# EAGLE library part SSW-148-02-S-T (library con-samtec)
THROUGH-HOLE .025" SQ POST SOCKET Source: Samtec SSW.pdf
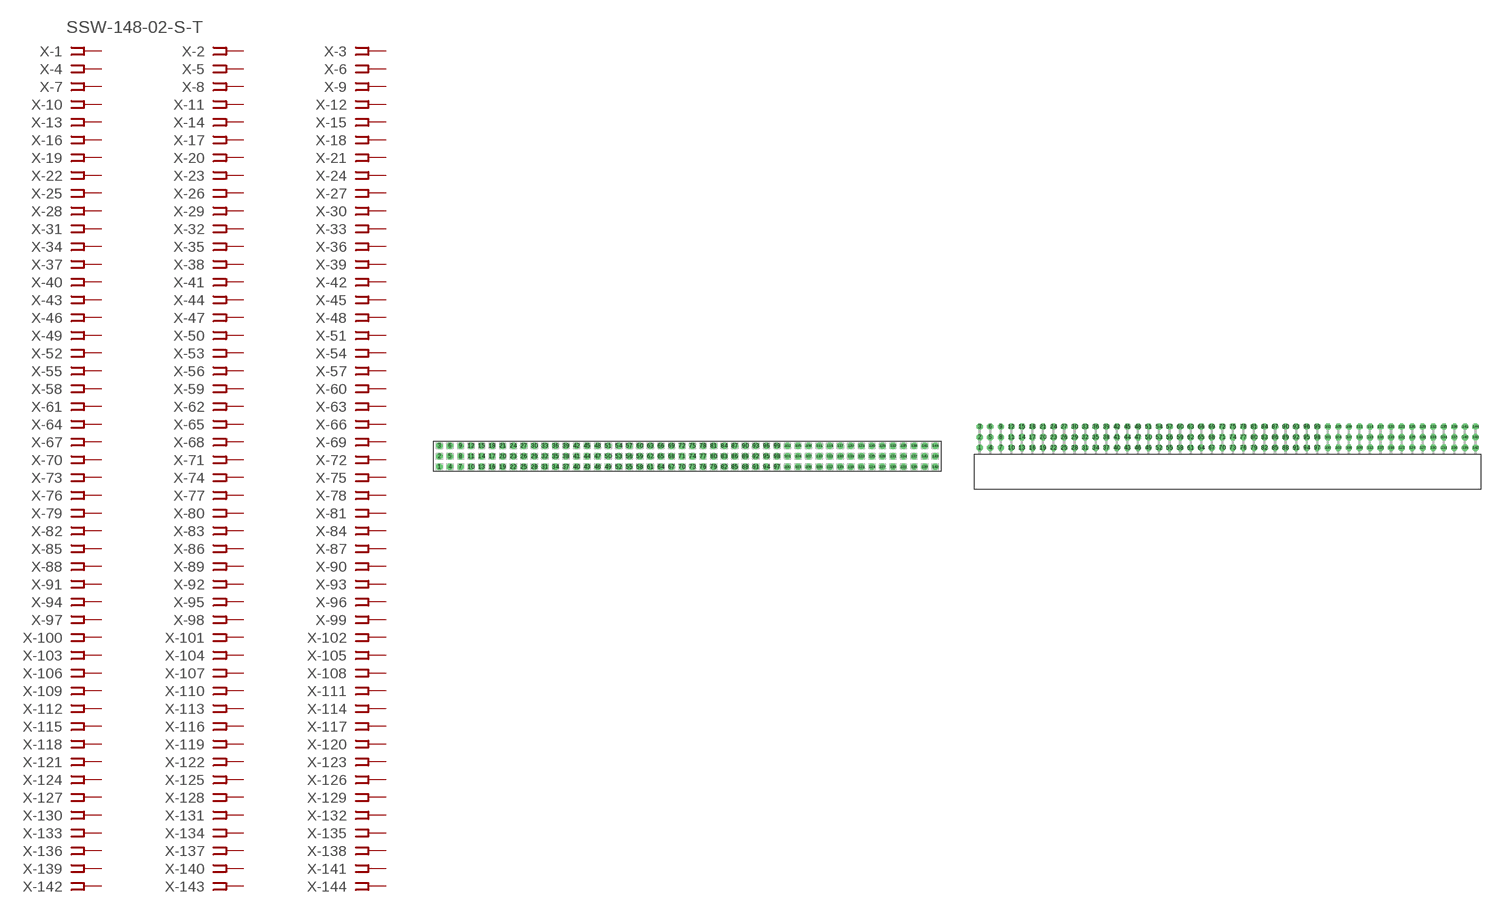
[diagram p8: symbol with the pads of SSW-148-02-S-T; footprints SSW-148-02-S-T, SSW-148-02-S-T-RA]

Designator prefix X; gates -1=FPINV -2=FPIN -3=FPIN -4=FPIN -5=FPIN -6=FPIN -7=FPIN -8=FPIN -9=FPIN -10=FPIN -11=FPIN -12=FPIN -13=FPIN -14=FPIN -15=FPIN -16=FPIN -17=FPIN -18=FPIN -19=FPIN -20=FPIN -21=FPIN -22=FPIN -23=FPIN -24=FPIN -25=FPIN -26=FPIN -27=FPIN -28=FPIN -29=FPIN -30=FPIN -31=FPIN -32=FPIN -33=FPIN -34=FPIN -35=FPIN -36=FPIN -37=FPIN -38=FPIN -39=FPIN -40=FPIN -41=FPIN -42=FPIN -43=FPIN -44=FPIN -45=FPIN -46=FPIN -47=FPIN -48=FPIN -49=FPIN -50=FPIN -51=FPIN -52=FPIN -53=FPIN -54=FPIN -55=FPIN -56=FPIN -57=FPIN -58=FPIN -59=FPIN -60=FPIN -61=FPIN -62=FPIN -63=FPIN -64=FPIN -65=FPIN -66=FPIN -67=FPIN -68=FPIN -69=FPIN -70=FPIN -71=FPIN -72=FPIN -73=FPIN -74=FPIN -75=FPIN -76=FPIN -77=FPIN -78=FPIN -79=FPIN -80=FPIN -81=FPIN -82=FPIN -83=FPIN -84=FPIN -85=FPIN -86=FPIN -87=FPIN -88=FPIN -89=FPIN -90=FPIN -91=FPIN -92=FPIN -93=FPIN -94=FPIN -95=FPIN -96=FPIN -97=FPIN -98=FPIN -99=FPIN -100=FPIN -101=FPIN -102=FPIN -103=FPIN -104=FPIN -105=FPIN -106=FPIN -107=FPIN -108=FPIN -109=FPIN -110=FPIN -111=FPIN -112=FPIN -113=FPIN -114=FPIN -115=FPIN -116=FPIN -117=FPIN -118=FPIN -119=FPIN -120=FPIN -121=FPIN -122=FPIN -123=FPIN -124=FPIN -125=FPIN -126=FPIN -127=FPIN -128=FPIN -129=FPIN -130=FPIN -131=FPIN -132=FPIN -133=FPIN -134=FPIN -135=FPIN -136=FPIN -137=FPIN -138=FPIN -139=FPIN -140=FPIN -141=FPIN -142=FPIN -143=FPIN -144=FPIN

## SSW-148-02-S-T (OC_FARNELL: unknown; OC_NEWARK: unknown)  [SSW-148-02-S-T]
1  -1:1  pas
2  -2:1  pas
3  -3:1  pas
4  -4:1  pas
5  -5:1  pas
6  -6:1  pas
7  -7:1  pas
8  -8:1  pas
9  -9:1  pas
10  -10:1  pas
11  -11:1  pas
12  -12:1  pas
13  -13:1  pas
14  -14:1  pas
15  -15:1  pas
16  -16:1  pas
17  -17:1  pas
18  -18:1  pas
19  -19:1  pas
20  -20:1  pas
21  -21:1  pas
22  -22:1  pas
23  -23:1  pas
24  -24:1  pas
25  -25:1  pas
26  -26:1  pas
27  -27:1  pas
28  -28:1  pas
29  -29:1  pas
30  -30:1  pas
31  -31:1  pas
32  -32:1  pas
33  -33:1  pas
34  -34:1  pas
35  -35:1  pas
36  -36:1  pas
37  -37:1  pas
38  -38:1  pas
39  -39:1  pas
40  -40:1  pas
41  -41:1  pas
42  -42:1  pas
43  -43:1  pas
44  -44:1  pas
45  -45:1  pas
46  -46:1  pas
47  -47:1  pas
48  -48:1  pas
49  -49:1  pas
50  -50:1  pas
51  -51:1  pas
52  -52:1  pas
53  -53:1  pas
54  -54:1  pas
55  -55:1  pas
56  -56:1  pas
57  -57:1  pas
58  -58:1  pas
59  -59:1  pas
60  -60:1  pas
61  -61:1  pas
62  -62:1  pas
63  -63:1  pas
64  -64:1  pas
65  -65:1  pas
66  -66:1  pas
67  -67:1  pas
68  -68:1  pas
69  -69:1  pas
70  -70:1  pas
71  -71:1  pas
72  -72:1  pas
73  -73:1  pas
74  -74:1  pas
75  -75:1  pas
76  -76:1  pas
77  -77:1  pas
78  -78:1  pas
79  -79:1  pas
80  -80:1  pas
81  -81:1  pas
82  -82:1  pas
83  -83:1  pas
84  -84:1  pas
85  -85:1  pas
86  -86:1  pas
87  -87:1  pas
88  -88:1  pas
89  -89:1  pas
90  -90:1  pas
91  -91:1  pas
92  -92:1  pas
93  -93:1  pas
94  -94:1  pas
95  -95:1  pas
96  -96:1  pas
97  -97:1  pas
98  -98:1  pas
99  -99:1  pas
100  -100:1  pas
101  -101:1  pas
102  -102:1  pas
103  -103:1  pas
104  -104:1  pas
105  -105:1  pas
106  -106:1  pas
107  -107:1  pas
108  -108:1  pas
109  -109:1  pas
110  -110:1  pas
111  -111:1  pas
112  -112:1  pas
113  -113:1  pas
114  -114:1  pas
115  -115:1  pas
116  -116:1  pas
117  -117:1  pas
118  -118:1  pas
119  -119:1  pas
120  -120:1  pas
121  -121:1  pas
122  -122:1  pas
123  -123:1  pas
124  -124:1  pas
125  -125:1  pas
126  -126:1  pas
127  -127:1  pas
128  -128:1  pas
129  -129:1  pas
130  -130:1  pas
131  -131:1  pas
132  -132:1  pas
133  -133:1  pas
134  -134:1  pas
135  -135:1  pas
136  -136:1  pas
137  -137:1  pas
138  -138:1  pas
139  -139:1  pas
140  -140:1  pas
141  -141:1  pas
142  -142:1  pas
143  -143:1  pas
144  -144:1  pas

## SSW-148-02-S-TRA (OC_FARNELL: unknown; OC_NEWARK: unknown)  [SSW-148-02-S-T-RA]
Pads as for SSW-148-02-S-T

## Footprint SSW-148-02-S-T (pad centres in mm)
THROUGH-HOLE .025" SQ POST SOCKET Source: Samtec SSW.pdf
drill 1 pad 1.5 octagon: 1 -59.69,-2.54; 2 -59.69,0; 3 -59.69,2.54; 4 -57.15,-2.54; 5 -57.15,0; 6 -57.15,2.54; 7 -54.61,-2.54; 8 -54.61,0; 9 -54.61,2.54; 10 -52.07,-2.54; 11 -52.07,0; 12 -52.07,2.54; 13 -49.53,-2.54; 14 -49.53,0; 15 -49.53,2.54; 16 -46.99,-2.54; 17 -46.99,0; 18 -46.99,2.54; 19 -44.45,-2.54; 20 -44.45,0; 21 -44.45,2.54; 22 -41.91,-2.54; 23 -41.91,0; 24 -41.91,2.54; 25 -39.37,-2.54; 26 -39.37,0; 27 -39.37,2.54; 28 -36.83,-2.54; 29 -36.83,0; 30 -36.83,2.54; 31 -34.29,-2.54; 32 -34.29,0; 33 -34.29,2.54; 34 -31.75,-2.54; 35 -31.75,0; 36 -31.75,2.54; 37 -29.21,-2.54; 38 -29.21,0; 39 -29.21,2.54; 40 -26.67,-2.54; 41 -26.67,0; 42 -26.67,2.54; 43 -24.13,-2.54; 44 -24.13,0; 45 -24.13,2.54; 46 -21.59,-2.54; 47 -21.59,0; 48 -21.59,2.54; 49 -19.05,-2.54; 50 -19.05,0; 51 -19.05,2.54; 52 -16.51,-2.54; 53 -16.51,0; 54 -16.51,2.54; 55 -13.97,-2.54; 56 -13.97,0; 57 -13.97,2.54; 58 -11.43,-2.54; 59 -11.43,0; 60 -11.43,2.54; 61 -8.89,-2.54; 62 -8.89,0; 63 -8.89,2.54; 64 -6.35,-2.54; 65 -6.35,0; 66 -6.35,2.54; 67 -3.81,-2.54; 68 -3.81,0; 69 -3.81,2.54; 70 -1.27,-2.54; 71 -1.27,0; 72 -1.27,2.54; 73 1.27,-2.54; 74 1.27,0; 75 1.27,2.54; 76 3.81,-2.54; 77 3.81,0; 78 3.81,2.54; 79 6.35,-2.54; 80 6.35,0; 81 6.35,2.54; 82 8.89,-2.54; 83 8.89,0; 84 8.89,2.54; 85 11.43,-2.54; 86 11.43,0; 87 11.43,2.54; 88 13.97,-2.54; 89 13.97,0; 90 13.97,2.54; 91 16.51,-2.54; 92 16.51,0; 93 16.51,2.54; 94 19.05,-2.54; 95 19.05,0; 96 19.05,2.54; 97 21.59,-2.54; 98 21.59,0; 99 21.59,2.54; 100 24.13,-2.54; 101 24.13,0; 102 24.13,2.54; 103 26.67,-2.54; 104 26.67,0; 105 26.67,2.54; 106 29.21,-2.54; 107 29.21,0; 108 29.21,2.54; 109 31.75,-2.54; 110 31.75,0; 111 31.75,2.54; 112 34.29,-2.54; 113 34.29,0; 114 34.29,2.54; 115 36.83,-2.54; 116 36.83,0; 117 36.83,2.54; 118 39.37,-2.54; 119 39.37,0; 120 39.37,2.54; 121 41.91,-2.54; 122 41.91,0; 123 41.91,2.54; 124 44.45,-2.54; 125 44.45,0; 126 44.45,2.54; 127 46.99,-2.54; 128 46.99,0; 129 46.99,2.54; 130 49.53,-2.54; 131 49.53,0; 132 49.53,2.54; 133 52.07,-2.54; 134 52.07,0; 135 52.07,2.54; 136 54.61,-2.54; 137 54.61,0; 138 54.61,2.54; 139 57.15,-2.54; 140 57.15,0; 141 57.15,2.54; 142 59.69,-2.54; 143 59.69,0; 144 59.69,2.54

## Footprint SSW-148-02-S-T-RA (pad centres in mm)
THROUGH-HOLE .025" SQ POST SOCKET Source: Samtec SSW.pdf
drill 1 pad 1.5 octagon: 1 -59.69,1.524; 2 -59.69,4.064; 3 -59.69,6.604; 4 -57.15,1.524; 5 -57.15,4.064; 6 -57.15,6.604; 7 -54.61,1.524; 8 -54.61,4.064; 9 -54.61,6.604; 10 -52.07,1.524; 11 -52.07,4.064; 12 -52.07,6.604; 13 -49.53,1.524; 14 -49.53,4.064; 15 -49.53,6.604; 16 -46.99,1.524; 17 -46.99,4.064; 18 -46.99,6.604; 19 -44.45,1.524; 20 -44.45,4.064; 21 -44.45,6.604; 22 -41.91,1.524; 23 -41.91,4.064; 24 -41.91,6.604; 25 -39.37,1.524; 26 -39.37,4.064; 27 -39.37,6.604; 28 -36.83,1.524; 29 -36.83,4.064; 30 -36.83,6.604; 31 -34.29,1.524; 32 -34.29,4.064; 33 -34.29,6.604; 34 -31.75,1.524; 35 -31.75,4.064; 36 -31.75,6.604; 37 -29.21,1.524; 38 -29.21,4.064; 39 -29.21,6.604; 40 -26.67,1.524; 41 -26.67,4.064; 42 -26.67,6.604; 43 -24.13,1.524; 44 -24.13,4.064; 45 -24.13,6.604; 46 -21.59,1.524; 47 -21.59,4.064; 48 -21.59,6.604; 49 -19.05,1.524; 50 -19.05,4.064; 51 -19.05,6.604; 52 -16.51,1.524; 53 -16.51,4.064; 54 -16.51,6.604; 55 -13.97,1.524; 56 -13.97,4.064; 57 -13.97,6.604; 58 -11.43,1.524; 59 -11.43,4.064; 60 -11.43,6.604; 61 -8.89,1.524; 62 -8.89,4.064; 63 -8.89,6.604; 64 -6.35,1.524; 65 -6.35,4.064; 66 -6.35,6.604; 67 -3.81,1.524; 68 -3.81,4.064; 69 -3.81,6.604; 70 -1.27,1.524; 71 -1.27,4.064; 72 -1.27,6.604; 73 1.27,1.524; 74 1.27,4.064; 75 1.27,6.604; 76 3.81,1.524; 77 3.81,4.064; 78 3.81,6.604; 79 6.35,1.524; 80 6.35,4.064; 81 6.35,6.604; 82 8.89,1.524; 83 8.89,4.064; 84 8.89,6.604; 85 11.43,1.524; 86 11.43,4.064; 87 11.43,6.604; 88 13.97,1.524; 89 13.97,4.064; 90 13.97,6.604; 91 16.51,1.524; 92 16.51,4.064; 93 16.51,6.604; 94 19.05,1.524; 95 19.05,4.064; 96 19.05,6.604; 97 21.59,1.524; 98 21.59,4.064; 99 21.59,6.604; 100 24.13,1.524; 101 24.13,4.064; 102 24.13,6.604; 103 26.67,1.524; 104 26.67,4.064; 105 26.67,6.604; 106 29.21,1.524; 107 29.21,4.064; 108 29.21,6.604; 109 31.75,1.524; 110 31.75,4.064; 111 31.75,6.604; 112 34.29,1.524; 113 34.29,4.064; 114 34.29,6.604; 115 36.83,1.524; 116 36.83,4.064; 117 36.83,6.604; 118 39.37,1.524; 119 39.37,4.064; 120 39.37,6.604; 121 41.91,1.524; 122 41.91,4.064; 123 41.91,6.604; 124 44.45,1.524; 125 44.45,4.064; 126 44.45,6.604; 127 46.99,1.524; 128 46.99,4.064; 129 46.99,6.604; 130 49.53,1.524; 131 49.53,4.064; 132 49.53,6.604; 133 52.07,1.524; 134 52.07,4.064; 135 52.07,6.604; 136 54.61,1.524; 137 54.61,4.064; 138 54.61,6.604; 139 57.15,1.524; 140 57.15,4.064; 141 57.15,6.604; 142 59.69,1.524; 143 59.69,4.064; 144 59.69,6.604